# Altium footprint library TCXO_TXC_7Q-16.PcbLib: 1 footprints
Each footprint in its own frame and in the unit in brackets; x right, y up, seen from the top. Pads: shape width x height; smd on the part's side, far side on the other; paste and mask are expansions set on the pad; w line width, h text height; cw(c..) or ccw(c..) is an arc to the next point about the centre after c.
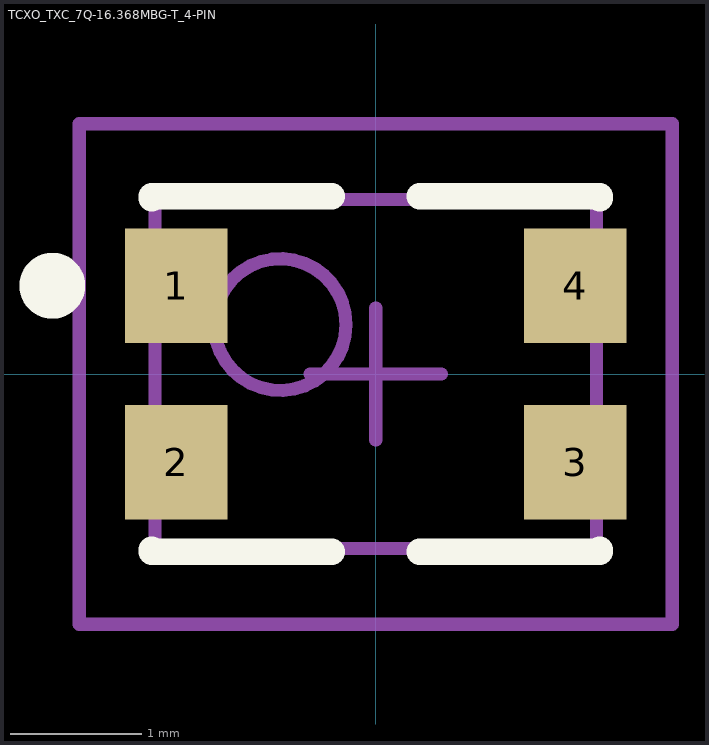
[diagram p0: the footprint, top view; thin cyan lines are the x and y axes]

## TCXO_TXC_7Q-16.368MBG-T_4-PIN [mm]
height 1.1
pads (4):
  rect 0.78x0.87 smd: 1(-1.515,0.67) 2(-1.515,-0.67) 3(1.515,-0.67) 4(1.515,0.67)
Top Overlay:
  circle w0.25: c-2.455,0.67 r0.125
  lines w0.2: -1.7,-1.335 -1.7,-1.35 -0.335,-1.35 ; -1.7,1.335 -1.7,1.35 -0.335,1.35 ; 0.335,-1.35 1.7,-1.35 1.7,-1.335 ; 0.335,1.35 1.7,1.35 1.7,1.335
Mechanical 13:
  circle w0.1: c-0.725,0.375 r0.5
  lines w0.1: -1.675,-1.325 1.675,-1.325 1.675,1.325 -1.675,1.325 -1.675,-1.325
Mechanical 15:
  lines w0.1: -0.5,0 0.5,0 ; 0,-0.5 0,0.5 ; -2.25,-1.9 2.25,-1.9 2.25,1.9 -2.25,1.9 -2.25,-1.9
3D body: height 1.1, standoff 0, extent -1.675,-1.325 1.675,1.325